# Altium footprint library CONN_USB_C.PcbLib: 3 footprints
Each footprint in its own frame and in the unit in brackets; x right, y up, seen from the top. Pads: shape width x height; smd on the part's side, far side on the other; paste and mask are expansions set on the pad; w line width, h text height; cw(c..) or ccw(c..) is an arc to the next point about the centre after c.
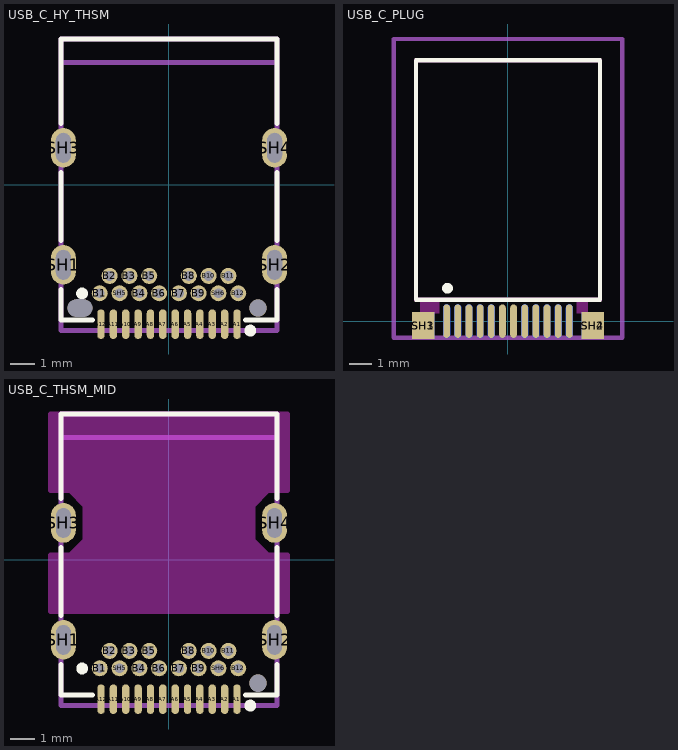
[diagram p0: the footprints below, top view; thin cyan lines are the x and y axes]

## USB_C_HY_THSM [mm] "USB 3.1 Type C Receptacle Horizontal THR"
height 2.96
pads (32):
  oval 0.3x1.2 smd mask+0.075: A1(2.75,-5.635) A2(2.25,-5.635) A3(1.75,-5.635) A4(1.25,-5.635) A5(0.75,-5.635) A6(0.25,-5.635) A7(-0.25,-5.635) A8(-0.75,-5.635) A9(-1.25,-5.635) A10(-1.75,-5.635) A11(-2.25,-5.635) A12(-2.75,-5.635)
  round 0.65 hole 0.4: B1(-2.8,-4.385) B2(-2.4,-3.685) B3(-1.6,-3.685) B4(-1.2,-4.385) B5(-0.8,-3.685) B6(-0.4,-4.385) B7(0.4,-4.385) B8(0.8,-3.685) B9(1.2,-4.385) B10(1.6,-3.685) B11(2.4,-3.685) B12(2.8,-4.385) SH5(-2,-4.385) SH6(2,-4.385)
  oval 1x1.6 hole 0.6 slot 1.2 at 90 deg: SH1(-4.27,-3.235) SH2(4.27,-3.235) SH3(-4.27,1.495) SH4(4.27,1.495)
  oval 1x0.7 hole 0.7 slot 1 at 0 deg unplated mask+0.05: ""(-3.6,-4.985)
  round 0.7 hole 0.7 unplated mask+0.05: ""(3.6,-4.985)
Top Overlay:
  circle w0.25: c-3.512,-4.395 r0.114
  circle w0.25: c3.288,-5.895 r0.114
  lines w0.2: -4.37,-4.225 -4.37,-5.465 -3.1,-5.465 ; -4.37,-2.245 -4.37,0.495 ; -4.37,2.485 -4.37,5.895 4.37,5.895 4.37,2.485 ; 3.1,-5.465 4.37,-5.465 4.37,-4.225 ; 4.37,-2.245 4.37,0.495
Mechanical 13:
  lines w0.2: -4.37,-5.895 -4.37,5.895 4.37,5.895 4.37,-5.895 -4.37,-5.895
Mechanical 15:
  lines w0.2: -4.37,4.945 4.37,4.945
3D body "632723100011.stp": height 3.05, standoff -1.41, extent -4.37,-5.899 4.37,5.895

## USB_C_PLUG [mm] "CONN, USB C , PLUG"
pads (26):
  oval 0.3x1.5 smd mask+0.075: A1(-2.75,0) A2(-2.25,0) A3(-1.75,0) A4(-1.25,0) A5(-0.75,0) A6(-0.25,0) A7(0.25,0) A8(0.75,0) A9(1.25,0) A10(1.75,0) A11(2.25,0) A12(2.75,0)
  oval 0.3x1.5 smd far side mask+0.075: B1(2.75,0) B2(2.25,0) B3(1.75,0) B4(1.25,0) B5(0.75,0) B8(-0.75,0) B9(-1.25,0) B10(-1.75,0) B11(-2.25,0) B12(-2.75,0)
  rect 1x1.2 smd: SH1(-3.8,-0.2) SH2(3.8,-0.2)
  rect 1x1.2 smd far side: SH3(-3.8,-0.2) SH4(3.8,-0.2)
Top Overlay:
  circle w0.25: c-2.712,1.475 r0.114
  lines w0.2: -4.125,0.95 -4.125,11.7 4.125,11.7 4.125,0.95 -4.125,0.95
Bottom Overlay:
  circle w0.25: c2.712,1.475 r0.114
  lines w0.2: -4.125,0.95 -4.125,11.7 4.125,11.7 4.125,0.95 -4.125,0.95
Keep-Out Layer:
  board cut-out: 3.58,0.95 3.58,0.35 3.08,0.35 3.08,0.95
  board cut-out: -3.075,0.95 -3.075,0.35 -3.945,0.35 -3.945,0.95
  lines w0.2: -4.125,0.95 -4.125,11.7 4.125,11.7 4.125,0.95 -4.125,0.95
Mechanical 13:
  lines w0.2: -5.125,-0.75 -5.125,12.65 5.125,12.65 5.125,-0.75 -5.125,-0.75
3D body "632712000011.stp": height 1.9, standoff -2.3, extent -5.125,-0.75 5.125,12.65

## USB_C_THSM_MID [mm] "USB 3.1 Type C Receptacle Horizontal THR, MID-Mount"
height 2.96
pads (31):
  oval 0.3x1.2 smd mask+0.075: A1(2.75,-5.635) A2(2.25,-5.635) A3(1.75,-5.635) A4(1.25,-5.635) A5(0.75,-5.635) A6(0.25,-5.635) A7(-0.25,-5.635) A8(-0.75,-5.635) A9(-1.25,-5.635) A10(-1.75,-5.635) A11(-2.25,-5.635) A12(-2.75,-5.635)
  round 0.65 hole 0.4: B1(-2.8,-4.385) B2(-2.4,-3.685) B3(-1.6,-3.685) B4(-1.2,-4.385) B5(-0.8,-3.685) B6(-0.4,-4.385) B7(0.4,-4.385) B8(0.8,-3.685) B9(1.2,-4.385) B10(1.6,-3.685) B11(2.4,-3.685) B12(2.8,-4.385) SH5(-2,-4.385) SH6(2,-4.385)
  oval 1x1.6 hole 0.6 slot 1.2 at 90 deg: SH1(-4.27,-3.235) SH2(4.27,-3.235) SH3(-4.27,1.495) SH4(4.27,1.495)
  round 0.7 hole 0.7 unplated: ""(3.6,-4.985)
Top Overlay:
  circle w0.25: c3.288,-5.895 r0.114
  circle w0.25: c-3.512,-4.395 r0.114
  lines w0.2: -4.37,-4.225 -4.37,-5.465 -3.1,-5.465 ; -4.37,-2.245 -4.37,0.495 ; -4.37,2.485 -4.37,5.895 4.37,5.895 4.37,2.485 ; 3.1,-5.465 4.37,-5.465 4.37,-4.225 ; 4.37,-2.245 4.37,0.495
Keep-Out Layer:
  board cut-out: -4.75,-2.1 -4.75,0.2 -4,0.2 -3.4,0.8 -3.4,2.2 -4,2.8 -4.75,2.8 -4.75,5.9 4.75,5.9 4.75,2.8 4,2.8 3.4,2.2 3.4,0.8 4,0.2 4.75,0.2 4.75,-2.1
  lines w0.2: -4.8,-2.1 -4.8,0.2 -4,0.2 -3.4,0.8 -3.4,2.2 -4,2.8 -4.8,2.8 -4.8,5.9 4.8,5.9 4.8,2.8 4,2.8 3.4,2.2 3.4,0.8 4,0.2 4.8,0.2 4.8,-2.1 -4.8,-2.1
Mechanical 13:
  lines w0.2: -4.37,-5.895 4.37,-5.895 4.37,5.895 -4.37,5.895 -4.37,-5.895
Mechanical 15:
  lines w0.2: -4.37,4.945 4.37,4.945
3D body "632723100011.stp": height 3.05, standoff -1.41, extent -4.37,-5.899 4.37,5.895